# Altium schematic symbol library RFID.SchLib: 1 symbol
Pins are listed as number, name and electrical type; pins without a type are passive.

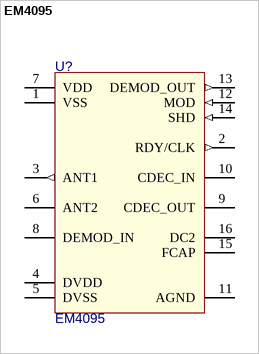
[diagram p0: symbol EM4095]

## EM4095
designator U?
Value: EM4095
footprint SO16_N (Footprint not found)
pins: 1 VSS (power), 2 RDY/CLK (out), 3 ANT1 (out), 4 DVDD (power), 5 DVSS (power), 6 ANT2, 7 VDD (power), 8 DEMOD_IN, 9 CDEC_OUT, 10 CDEC_IN, 11 AGND (power), 12 MOD (in), 13 DEMOD_OUT (out), 14 SHD (in), 15 FCAP, 16 DC2